# EAGLE library part AVR-ATTINY24/44/84 (library p.peter-ics)
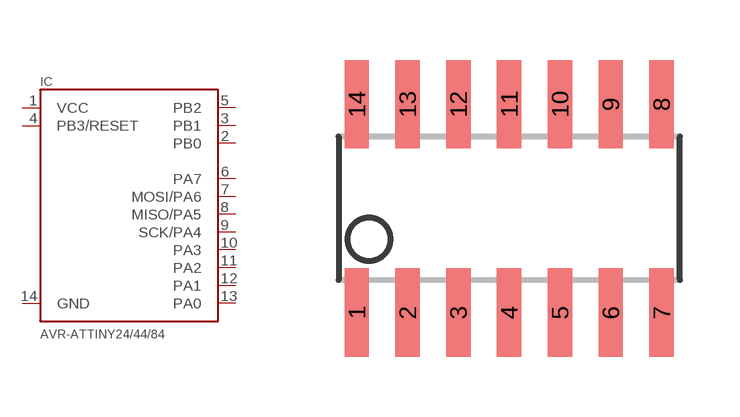
[diagram p18: symbol with the pads of SOIC14; footprint SOIC14]

Designator prefix IC

## AVR-ATTINY24/44/84-SOIC14  [SOIC14]
1  VCC
2  PB0
3  PB1
4  PB3/RESET
5  PB2
6  PA7
7  MOSI/PA6
8  MISO/PA5
9  SCK/PA4
10  PA3
11  PA2
12  PA1
13  PA0
14  GND

## Footprint SOIC14 (pad centres in mm)
Small Outline Package
smd 0.61 x 2.21: 1 -3.81,-2.603; 2 -2.54,-2.603; 3 -1.27,-2.603; 4 0,-2.603; 5 1.27,-2.603; 6 2.54,-2.603; 7 3.81,-2.603; 8 3.81,2.603; 9 2.54,2.603; 10 1.27,2.603; 11 0,2.603; 12 -1.27,2.603; 13 -2.54,2.603; 14 -3.81,2.603